# EAGLE library part DOGM128-6 (library lcd_displays)
Electronic Assembly Graphik Display 128 x 64 EA DOGM128-6 VCC=3V3, Size 55 x 46mm
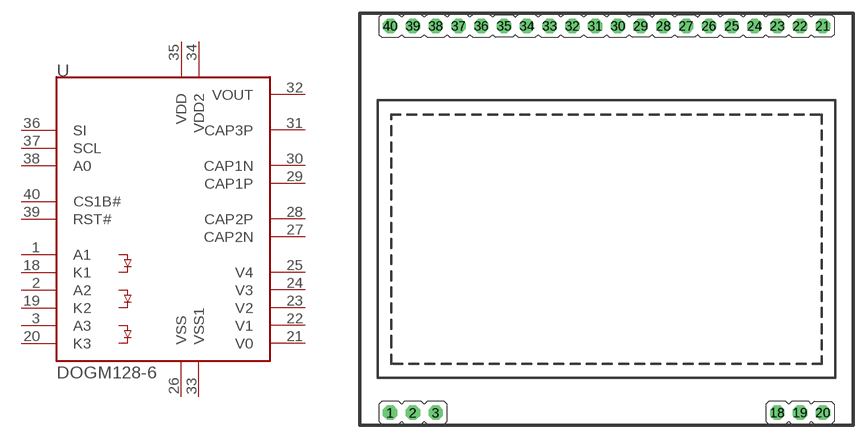
[diagram p3: symbol with the pads of DOGM128; footprint DOGM128]

Designator prefix -

## DOGM128-6  [DOGM128]
1  A1
2  A2
3  A3
18  K1
19  K2
20  K3
21  V0  pwr
22  V1  pwr
23  V2  pwr
24  V3  pwr
25  V4  pwr
26  VSS  pwr
27  CAP2N
28  CAP2P
29  CAP1P
30  CAP1N
31  CAP3P
32  VOUT  pwr
33  VSS1  pwr
34  VDD2  pwr
35  VDD  pwr
36  SI
37  SCL
38  A0
39  RST#
40  CS1B#

## Footprint DOGM128 (pad centres in mm)
EA DOGM128-6 Chip-on-glass, 2.54 pitch
drill 0.914 pad 1.6 octagon: 1 -24.13,-19.38; 2 -21.59,-19.38; 3 -19.05,-19.38; 18 19.05,-19.38; 19 21.59,-19.38; 20 24.13,-19.38; 21 24.13,23.8; 22 21.59,23.8; 23 19.05,23.8; 24 16.51,23.8; 25 13.97,23.8; 26 11.43,23.8; 27 8.89,23.8; 28 6.35,23.8; 29 3.81,23.8; 30 1.27,23.8; 31 -1.27,23.8; 32 -3.81,23.8; 33 -6.35,23.8; 34 -8.89,23.8; 35 -11.43,23.8; 36 -13.97,23.8; 37 -16.51,23.8; 38 -19.05,23.8; 39 -21.59,23.8; 40 -24.13,23.8